# Altium footprint library PcbLib3.PcbLib: 1 footprints
Each footprint in its own frame and in the unit in brackets; x right, y up, seen from the top. Pads: shape width x height; smd on the part's side, far side on the other; paste and mask are expansions set on the pad; w line width, h text height; cw(c..) or ccw(c..) is an arc to the next point about the centre after c.
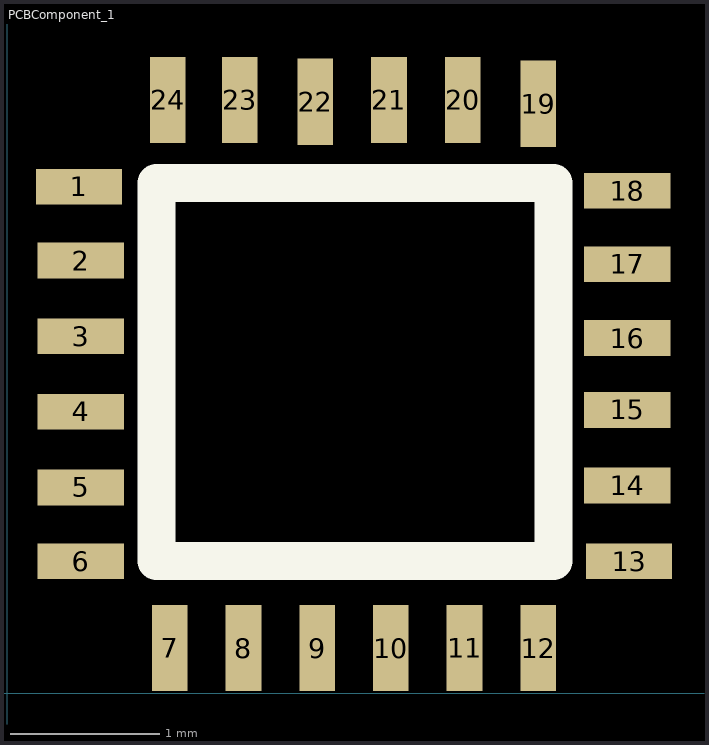
[diagram p0: the footprint, top view; thin cyan lines are the x and y axes]

## PCBComponent_1 [mm]
pads (24):
  rect 0.58x0.24 smd: 1(0.483,3.404) 2(0.495,2.908) 3(0.495,2.4) 4(0.495,1.892) 5(0.495,1.384) 6(0.495,0.889) 13(4.178,0.889) 14(4.166,1.397) 15(4.166,1.905) 16(4.166,2.388) 17(4.166,2.883) 18(4.166,3.378)
  rect 0.24x0.58 smd: 7(1.092,0.305) 8(1.587,0.305) 9(2.083,0.305) 10(2.578,0.305) 11(3.073,0.305) 12(3.569,0.305) 19(3.569,3.962) 20(3.061,3.988) 21(2.565,3.988) 22(2.07,3.975) 23(1.562,3.988) 24(1.079,3.988)
Top Overlay:
  lines w0.254: 1.003,0.889 3.67,0.889 3.67,3.429 1.003,3.429 1.003,0.889
3D body "RGE24_2P7X2P7_TEX.step": height 1, standoff 0, extent 0.198,0.013 4.45,4.265